# Altium integrated library ALTIUM-WCAP-PHET-rev18a.IntLib: 6 symbols
Pins are listed as number, name and electrical type; pins without a type are passive.

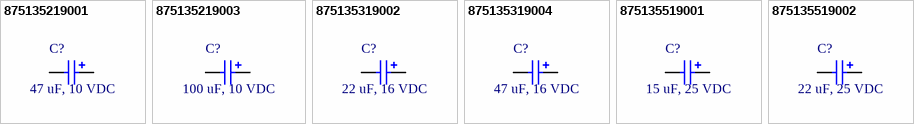
[diagram p0: symbols 875135219001 to 875135519002]

## 875135219001
designator C?, comment 47 uF, 10 VDC
Aluminum Polymer Capacitors WCAP-PHET, 47 uF, 10 VDC; Part Number: 875135219001; Rated Voltage: 10 VDC; Capacitance: 47 uF; Leakage Current: 141 uA; Dissipation Factor: 10%; Endurance: 1000 h; ESR Resistance: 40 mOhm; Ripple Current: 3200 A; ComponentLink1Description: Manufacturer; ComponentLink1URL: http://www.we-online.de; ComponentLink2Description: Datasheet; ComponentLink2URL: https://katalog.we-online.de/pbs/datasheet/875135219001.pdf; Published Date: November 2018; Publisher: Wurth Elektronik; Size: 7.3x4.3x1.9; Operating Temperature: -55 to +125 degC; Mounting Technology: SMT; Packaging: Tape and Reel
footprint WCAP-PHET_7.3x4.3x1.9
pins: 1 K, 2 A

## 875135219003
designator C?, comment 100 uF, 10 VDC
Aluminum Polymer Capacitors WCAP-PHET, 100 uF, 10 VDC; Part Number: 875135219003; Rated Voltage: 10 VDC; Capacitance: 100 uF; Leakage Current: 300 uA; Dissipation Factor: 10%; Endurance: 1000 h; ESR Resistance: 40 mOhm; Ripple Current: 3200 A; ComponentLink1Description: Manufacturer; ComponentLink1URL: http://www.we-online.de; ComponentLink2Description: Datasheet; ComponentLink2URL: https://katalog.we-online.de/pbs/datasheet/875135219003.pdf; Published Date: November 2018; Publisher: Wurth Elektronik; Size: 7.3x4.3x1.9; Operating Temperature: -55 to +125 degC; Mounting Technology: SMT; Packaging: Tape and Reel
footprint WCAP-PHET_7.3x4.3x1.9
pins: 1 K, 2 A

## 875135319002
designator C?, comment 22 uF, 16 VDC
Aluminum Polymer Capacitors WCAP-PHET, 22 uF, 16 VDC; Part Number: 875135319002; Rated Voltage: 16 VDC; Capacitance: 22 uF; Leakage Current: 105.6 uA; Dissipation Factor: 10%; Endurance: 1000 h; ESR Resistance: 40 mOhm; Ripple Current: 3200 A; ComponentLink1Description: Manufacturer; ComponentLink1URL: http://www.we-online.de; ComponentLink2Description: Datasheet; ComponentLink2URL: https://katalog.we-online.de/pbs/datasheet/875135319002.pdf; Published Date: November 2018; Publisher: Wurth Elektronik; Size: 7.3x4.3x1.9; Operating Temperature: -55 to +125 degC; Mounting Technology: SMT; Packaging: Tape and Reel
footprint WCAP-PHET_7.3x4.3x1.9
pins: 1 K, 2 A

## 875135319004
designator C?, comment 47 uF, 16 VDC
Aluminum Polymer Capacitors WCAP-PHET, 47 uF, 16 VDC; Part Number: 875135319004; Rated Voltage: 16 VDC; Capacitance: 47 uF; Leakage Current: 225.6 uA; Dissipation Factor: 10%; Endurance: 1000 h; ESR Resistance: 40 mOhm; Ripple Current: 3200 A; ComponentLink1Description: Manufacturer; ComponentLink1URL: http://www.we-online.de; ComponentLink2Description: Datasheet; ComponentLink2URL: https://katalog.we-online.de/pbs/datasheet/875135319004.pdf; Published Date: November 2018; Publisher: Wurth Elektronik; Size: 7.3x4.3x1.9; Operating Temperature: -55 to +125 degC; Mounting Technology: SMT; Packaging: Tape and Reel
footprint WCAP-PHET_7.3x4.3x1.9
pins: 1 K, 2 A

## 875135519001
designator C?, comment 15 uF, 25 VDC
Aluminum Polymer Capacitors WCAP-PHET, 15 uF, 25 VDC; Part Number: 875135519001; Rated Voltage: 25 VDC; Capacitance: 15 uF; Leakage Current: 112.5 uA; Dissipation Factor: 10%; Endurance: 1000 h; ESR Resistance: 40 mOhm; Ripple Current: 3200 A; ComponentLink1Description: Manufacturer; ComponentLink1URL: http://www.we-online.de; ComponentLink2Description: Datasheet; ComponentLink2URL: https://katalog.we-online.de/pbs/datasheet/875135519001.pdf; Published Date: November 2018; Publisher: Wurth Elektronik; Size: 7.3x4.3x1.9; Operating Temperature: -55 to +125 degC; Mounting Technology: SMT; Packaging: Tape and Reel
footprint WCAP-PHET_7.3x4.3x1.9
pins: 1 K, 2 A

## 875135519002
designator C?, comment 22 uF, 25 VDC
Aluminum Polymer Capacitors WCAP-PHET, 22 uF, 25 VDC; Part Number: 875135519002; Rated Voltage: 25 VDC; Capacitance: 22 uF; Leakage Current: 165 uA; Dissipation Factor: 10%; Endurance: 1000 h; ESR Resistance: 40 mOhm; Ripple Current: 3200 A; ComponentLink1Description: Manufacturer; ComponentLink1URL: http://www.we-online.de; ComponentLink2Description: Datasheet; ComponentLink2URL: https://katalog.we-online.de/pbs/datasheet/875135519002.pdf; Published Date: November 2018; Publisher: Wurth Elektronik; Size: 7.3x4.3x1.9; Operating Temperature: -55 to +125 degC; Mounting Technology: SMT; Packaging: Tape and Reel
footprint WCAP-PHET_7.3x4.3x1.9
pins: 1 K, 2 A